# Altium schematic symbol library kmilo17pet-PIC16_Part2.SchLib: 1569 symbols (part 34 of 56)
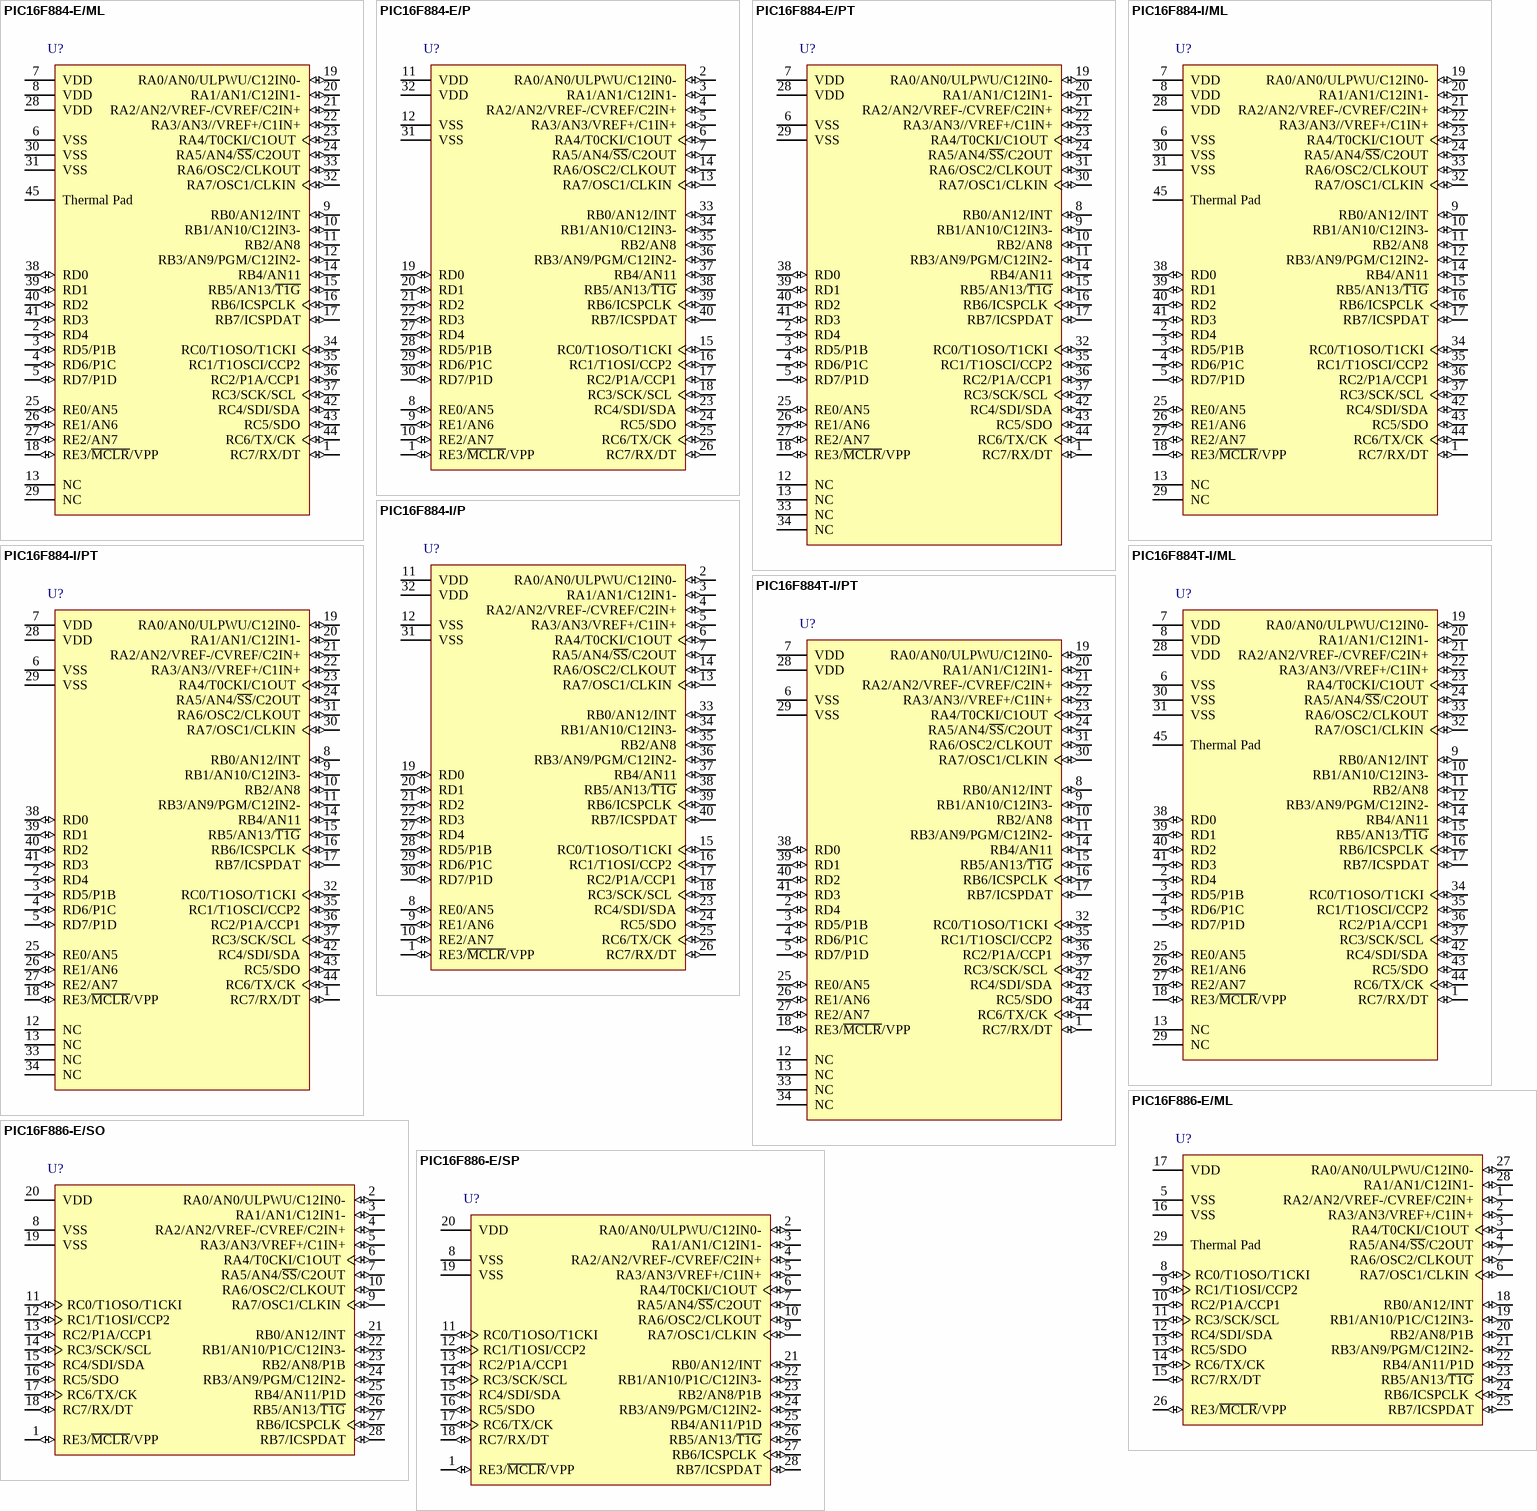
[diagram p158: symbols PIC16F884-E/ML to PIC16F886-E/SP]

## PIC16F884-E/P
designator U?
Flash-Based, 8-Bit CMOS Microcontroller with nanoWatt Technology, 4K (x14-Bit words) Program Memory, 512 Bytes Data Memory, 35 I/O pins, 40-Pin PDIP, Standard VDD Range, Extended Temperature; Manufacturer: Microchip; PartNumber: PIC16F884-E/P; DatasheetVersion: revF, Apr-2009; PackageVersion: revBB, Aug-2009; PackageReference: PDIP600-P40; PackageDescription: 40-Lead Plastic Dual In-Line (P) - 600 mil Body [PDIP]; Supplier 1: Digi-Key; Supplier Part Number 1: PIC16F884-E/P-ND; Supplier 2: Mouser; Supplier Part Number 2: 579-PIC16F884-E/P; ComponentLink1Description: Manufacturer URL; ComponentLink1URL: http://www.microchip.com/; ComponentLink2Description: Datasheet; ComponentLink2URL: http://ww1.microchip.com/downloads/en/DeviceDoc/41291F.pdf; ComponentLink3Description: Package Specification; ComponentLink3URL: http://www.microchip.com/stellent/groups/techpub_sg/documents/packagingspec/en012702.pdf
footprint PDIP600-P40 (DIP, 40-Leads, Row Spacing 15.24mm, Pitch 2.54mm, Body 51.8x13.5mm)
pins: 1 RE3/~{MCLR}/VPP (io), 2 RA0/AN0/ULPWU/C12IN0- (io), 3 RA1/AN1/C12IN1- (io), 4 RA2/AN2/VREF-/CVREF/C2IN+ (io), 5 RA3/AN3/VREF+/C1IN+ (io), 6 RA4/T0CKI/C1OUT (io), 7 RA5/AN4/~{SS}/C2OUT (io), 8 RE0/AN5 (io), 9 RE1/AN6 (io), 10 RE2/AN7 (io), 11 VDD (power), 12 VSS (power), 13 RA7/OSC1/CLKIN (io), 14 RA6/OSC2/CLKOUT (io), 15 RC0/T1OSO/T1CKI (io), 16 RC1/T1OSI/CCP2 (io), 17 RC2/P1A/CCP1 (io), 18 RC3/SCK/SCL (io), 19 RD0 (io), 20 RD1 (io), 21 RD2 (io), 22 RD3 (io), 23 RC4/SDI/SDA (io), 24 RC5/SDO (io), 25 RC6/TX/CK (io), 26 RC7/RX/DT (io), 27 RD4 (io), 28 RD5/P1B (io), 29 RD6/P1C (io), 30 RD7/P1D (io), 31 VSS (power), 32 VDD (power), 33 RB0/AN12/INT (io), 34 RB1/AN10/C12IN3- (io), 35 RB2/AN8 (io), 36 RB3/AN9/PGM/C12IN2- (io), 37 RB4/AN11 (io), 38 RB5/AN13/~{T1G} (io), 39 RB6/ICSPCLK (io), 40 RB7/ICSPDAT (io)

## PIC16F884-E/PT
designator U?
Flash-Based, 8-Bit CMOS Microcontroller with nanoWatt Technology, 4K (x14-Bit words) Program Memory, 512 Bytes Data Memory, 35 I/O pins, 44-Pin TQFP, Standard VDD Range, Extended Temperature; Manufacturer: Microchip; PartNumber: PIC16F884-E/PT; DatasheetVersion: revF, Apr-2009; PackageVersion: revBB, Aug-2009; PackageReference: TQFP-PT44; PackageDescription: 44-Lead Plastic Thin Quad Flatpack (PT) - 10x10x1mm Body, 2.00mm [TQFP]; Supplier 1: Digi-Key; Supplier Part Number 1: PIC16F884-E/PT-ND; Supplier 2: Newark; Supplier Part Number 2: 74K8565; Supplier 3: Mouser; Supplier Part Number 3: 579-PIC16F884-E/PT; Code_JEDEC: MS-026; ComponentLink1Description: Manufacturer URL; ComponentLink1URL: http://www.microchip.com/; ComponentLink2Description: Datasheet; ComponentLink2URL: http://ww1.microchip.com/downloads/en/DeviceDoc/41291F.pdf; ComponentLink3Description: Package Specification; ComponentLink3URL: http://www.microchip.com/stellent/groups/techpub_sg/documents/packagingspec/en012702.pdf
footprint TQFP-PT44_N (Thin QFP, 44-Leads, Body 10x10mm, Pitch 0.8mm, IPC Medium Density)
footprint TQFP-PT44_L (Thin QFP, 44-Leads, Body 10x10mm, Pitch 0.8mm, IPC High Density)
footprint TQFP-PT44_M (Thin QFP, 44-Leads, Body 10x10mm, Pitch 0.8mm, IPC Low Density)
pins: 1 RC7/RX/DT (io), 2 RD4 (io), 3 RD5/P1B (io), 4 RD6/P1C (io), 5 RD7/P1D (io), 6 VSS (power), 7 VDD (power), 8 RB0/AN12/INT (io), 9 RB1/AN10/C12IN3- (io), 10 RB2/AN8 (io), 11 RB3/AN9/PGM/C12IN2- (io), 12 NC, 13 NC, 14 RB4/AN11 (io), 15 RB5/AN13/~{T1G} (io), 16 RB6/ICSPCLK (io), 17 RB7/ICSPDAT (io), 18 RE3/~{MCLR}/VPP (io), 19 RA0/AN0/ULPWU/C12IN0- (io), 20 RA1/AN1/C12IN1- (io), 21 RA2/AN2/VREF-/CVREF/C2IN+ (io), 22 RA3/AN3//VREF+/C1IN+ (io), 23 RA4/T0CKI/C1OUT (io), 24 RA5/AN4/~{SS}/C2OUT (io), 25 RE0/AN5 (io), 26 RE1/AN6 (io), 27 RE2/AN7 (io), 28 VDD (power), 29 VSS (power), 30 RA7/OSC1/CLKIN (io), 31 RA6/OSC2/CLKOUT (io), 32 RC0/T1OSO/T1CKI (io), 33 NC, 34 NC, 35 RC1/T1OSCI/CCP2 (io), 36 RC2/P1A/CCP1 (io), 37 RC3/SCK/SCL (io), 38 RD0 (io), 39 RD1 (io), 40 RD2 (io), 41 RD3 (io), 42 RC4/SDI/SDA (io), 43 RC5/SDO (io), 44 RC6/TX/CK (io)

## PIC16F884-I/ML
designator U?
Flash-Based, 8-Bit CMOS Microcontroller with nanoWatt Technology, 4K (x14-Bit words) Program Memory, 512 Bytes Data Memory, 35 I/O pins, 44-Pin QFN, Standard VDD Range, Industrial Temperature; Manufacturer: Microchip; PartNumber: PIC16F884-I/ML; DatasheetVersion: revF, Apr-2009; PackageVersion: revBB, Aug-2009; PackageReference: QFN-ML44; PackageDescription: 44-Lead Plastic Quad Flat, No Lead Package (ML) - 8x8 mm Body [QFN]; Supplier 1: Digi-Key; Supplier Part Number 1: PIC16F884-I/ML-ND; Supplier 2: Farnell; Supplier Part Number 2: 1815999; Supplier 3: Newark; Supplier Part Number 3: 74K8566; Supplier 4: Mouser; Supplier Part Number 4: 579-PIC16F884-I/ML; Code_JEDEC: MO-220; Code_IPC: QFN65P800X800-44V2; ComponentLink1Description: Manufacturer URL; ComponentLink1URL: http://www.microchip.com/; ComponentLink2Description: Datasheet; ComponentLink2URL: http://ww1.microchip.com/downloads/en/DeviceDoc/41291F.pdf; ComponentLink3Description: Package Specification; ComponentLink3URL: http://www.microchip.com/stellent/groups/techpub_sg/documents/packagingspec/en012702.pdf
footprint QFN-ML44_N (QFN, 44-Leads, Body 8x8mm, Pitch 0.65mm, Thermal Pad 6.8x6.8mm, IPC Medium Density)
footprint QFN-ML44_L (QFN, 44-Leads, Body 8x8mm, Pitch 0.65mm, Thermal Pad 6.8x6.8mm, IPC High Density)
footprint QFN-ML44_M (QFN, 44-Leads, Body 8x8mm, Pitch 0.65mm, Thermal Pad 6.8x6.8mm, IPC Low Density)
pins: 1 RC7/RX/DT (io), 2 RD4 (io), 3 RD5/P1B (io), 4 RD6/P1C (io), 5 RD7/P1D (io), 6 VSS (power), 7 VDD (power), 8 VDD (power), 9 RB0/AN12/INT (io), 10 RB1/AN10/C12IN3- (io), 11 RB2/AN8 (io), 12 RB3/AN9/PGM/C12IN2- (io), 13 NC, 14 RB4/AN11 (io), 15 RB5/AN13/~{T1G} (io), 16 RB6/ICSPCLK (io), 17 RB7/ICSPDAT (io), 18 RE3/~{MCLR}/VPP (io), 19 RA0/AN0/ULPWU/C12IN0- (io), 20 RA1/AN1/C12IN1- (io), 21 RA2/AN2/VREF-/CVREF/C2IN+ (io), 22 RA3/AN3//VREF+/C1IN+ (io), 23 RA4/T0CKI/C1OUT (io), 24 RA5/AN4/~{SS}/C2OUT (io), 25 RE0/AN5 (io), 26 RE1/AN6 (io), 27 RE2/AN7 (io), 28 VDD (power), 29 NC, 30 VSS (power), 31 VSS (power), 32 RA7/OSC1/CLKIN (io), 33 RA6/OSC2/CLKOUT (io), 34 RC0/T1OSO/T1CKI (io), 35 RC1/T1OSCI/CCP2 (io), 36 RC2/P1A/CCP1 (io), 37 RC3/SCK/SCL (io), 38 RD0 (io), 39 RD1 (io), 40 RD2 (io), 41 RD3 (io), 42 RC4/SDI/SDA (io), 43 RC5/SDO (io), 44 RC6/TX/CK (io), 45 Thermal Pad

## PIC16F884-I/P
designator U?
Flash-Based, 8-Bit CMOS Microcontroller with nanoWatt Technology, 4K (x14-Bit words) Program Memory, 512 Bytes Data Memory, 35 I/O pins, 40-Pin PDIP, Standard VDD Range, Industrial Temperature; Manufacturer: Microchip; PartNumber: PIC16F884-I/P; DatasheetVersion: revF, Apr-2009; PackageVersion: revBB, Aug-2009; PackageReference: PDIP600-P40; PackageDescription: 40-Lead Plastic Dual In-Line (P) - 600 mil Body [PDIP]; Supplier 1: Digi-Key; Supplier Part Number 1: PIC16F884-I/P-ND; Supplier 2: Farnell; Supplier Part Number 2: 1439536; Supplier 3: Newark; Supplier Part Number 3: 74K8567; Supplier 4: Mouser; Supplier Part Number 4: 579-PIC16F884-I/P; ComponentLink1Description: Manufacturer URL; ComponentLink1URL: http://www.microchip.com/; ComponentLink2Description: Datasheet; ComponentLink2URL: http://ww1.microchip.com/downloads/en/DeviceDoc/41291F.pdf; ComponentLink3Description: Package Specification; ComponentLink3URL: http://www.microchip.com/stellent/groups/techpub_sg/documents/packagingspec/en012702.pdf
footprint PDIP600-P40 (DIP, 40-Leads, Row Spacing 15.24mm, Pitch 2.54mm, Body 51.8x13.5mm)
pins: 1 RE3/~{MCLR}/VPP (io), 2 RA0/AN0/ULPWU/C12IN0- (io), 3 RA1/AN1/C12IN1- (io), 4 RA2/AN2/VREF-/CVREF/C2IN+ (io), 5 RA3/AN3/VREF+/C1IN+ (io), 6 RA4/T0CKI/C1OUT (io), 7 RA5/AN4/~{SS}/C2OUT (io), 8 RE0/AN5 (io), 9 RE1/AN6 (io), 10 RE2/AN7 (io), 11 VDD (power), 12 VSS (power), 13 RA7/OSC1/CLKIN (io), 14 RA6/OSC2/CLKOUT (io), 15 RC0/T1OSO/T1CKI (io), 16 RC1/T1OSI/CCP2 (io), 17 RC2/P1A/CCP1 (io), 18 RC3/SCK/SCL (io), 19 RD0 (io), 20 RD1 (io), 21 RD2 (io), 22 RD3 (io), 23 RC4/SDI/SDA (io), 24 RC5/SDO (io), 25 RC6/TX/CK (io), 26 RC7/RX/DT (io), 27 RD4 (io), 28 RD5/P1B (io), 29 RD6/P1C (io), 30 RD7/P1D (io), 31 VSS (power), 32 VDD (power), 33 RB0/AN12/INT (io), 34 RB1/AN10/C12IN3- (io), 35 RB2/AN8 (io), 36 RB3/AN9/PGM/C12IN2- (io), 37 RB4/AN11 (io), 38 RB5/AN13/~{T1G} (io), 39 RB6/ICSPCLK (io), 40 RB7/ICSPDAT (io)

## PIC16F884-I/PT
designator U?
Flash-Based, 8-Bit CMOS Microcontroller with nanoWatt Technology, 4K (x14-Bit words) Program Memory, 512 Bytes Data Memory, 35 I/O pins, 44-Pin TQFP, Standard VDD Range, Industrial Temperature; Manufacturer: Microchip; PartNumber: PIC16F884-I/PT; DatasheetVersion: revF, Apr-2009; PackageVersion: revBB, Aug-2009; PackageReference: TQFP-PT44; PackageDescription: 44-Lead Plastic Thin Quad Flatpack (PT) - 10x10x1mm Body, 2.00mm [TQFP]; Supplier 1: Digi-Key; Supplier Part Number 1: PIC16F884-I/PT-ND; Supplier 2: Farnell; Supplier Part Number 2: 1439537; Supplier 3: Farnell; Supplier Part Number 3: 1439537MPKG; Supplier 4: Farnell; Supplier Part Number 4: 1678903; Supplier 5: Newark; Supplier Part Number 5: 74K8568; Supplier 6: Mouser; Supplier Part Number 6: 579-PIC16F884-I/PT; Code_JEDEC: MS-026; ComponentLink1Description: Manufacturer URL; ComponentLink1URL: http://www.microchip.com/; ComponentLink2Description: Datasheet; ComponentLink2URL: http://ww1.microchip.com/downloads/en/DeviceDoc/41291F.pdf; ComponentLink3Description: Package Specification; ComponentLink3URL: http://www.microchip.com/stellent/groups/techpub_sg/documents/packagingspec/en012702.pdf
footprint TQFP-PT44_N (Thin QFP, 44-Leads, Body 10x10mm, Pitch 0.8mm, IPC Medium Density)
footprint TQFP-PT44_L (Thin QFP, 44-Leads, Body 10x10mm, Pitch 0.8mm, IPC High Density)
footprint TQFP-PT44_M (Thin QFP, 44-Leads, Body 10x10mm, Pitch 0.8mm, IPC Low Density)
pins: 1 RC7/RX/DT (io), 2 RD4 (io), 3 RD5/P1B (io), 4 RD6/P1C (io), 5 RD7/P1D (io), 6 VSS (power), 7 VDD (power), 8 RB0/AN12/INT (io), 9 RB1/AN10/C12IN3- (io), 10 RB2/AN8 (io), 11 RB3/AN9/PGM/C12IN2- (io), 12 NC, 13 NC, 14 RB4/AN11 (io), 15 RB5/AN13/~{T1G} (io), 16 RB6/ICSPCLK (io), 17 RB7/ICSPDAT (io), 18 RE3/~{MCLR}/VPP (io), 19 RA0/AN0/ULPWU/C12IN0- (io), 20 RA1/AN1/C12IN1- (io), 21 RA2/AN2/VREF-/CVREF/C2IN+ (io), 22 RA3/AN3//VREF+/C1IN+ (io), 23 RA4/T0CKI/C1OUT (io), 24 RA5/AN4/~{SS}/C2OUT (io), 25 RE0/AN5 (io), 26 RE1/AN6 (io), 27 RE2/AN7 (io), 28 VDD (power), 29 VSS (power), 30 RA7/OSC1/CLKIN (io), 31 RA6/OSC2/CLKOUT (io), 32 RC0/T1OSO/T1CKI (io), 33 NC, 34 NC, 35 RC1/T1OSCI/CCP2 (io), 36 RC2/P1A/CCP1 (io), 37 RC3/SCK/SCL (io), 38 RD0 (io), 39 RD1 (io), 40 RD2 (io), 41 RD3 (io), 42 RC4/SDI/SDA (io), 43 RC5/SDO (io), 44 RC6/TX/CK (io)

## PIC16F884T-I/ML
designator U?
Flash-Based, 8-Bit CMOS Microcontroller with nanoWatt Technology, 4K (x14-Bit words) Program Memory, 512 Bytes Data Memory, 35 I/O pins, 44-Pin QFN, Standard VDD Range, Industrial Temperature, Tape and Reel; Manufacturer: Microchip; PartNumber: PIC16F884T-I/ML; DatasheetVersion: revF, Apr-2009; PackageVersion: revBB, Aug-2009; PackageReference: QFN-ML44; PackageDescription: 44-Lead Plastic Quad Flat, No Lead Package (ML) - 8x8 mm Body [QFN]; Supplier 1: Digi-Key; Supplier Part Number 1: PIC16F884T-I/ML-ND; Supplier 2: Mouser; Supplier Part Number 2: 579-PIC16F884T-I/ML; Code_JEDEC: MO-220; Code_IPC: QFN65P800X800-44V2; ComponentLink1Description: Manufacturer URL; ComponentLink1URL: http://www.microchip.com/; ComponentLink2Description: Datasheet; ComponentLink2URL: http://ww1.microchip.com/downloads/en/DeviceDoc/41291F.pdf; ComponentLink3Description: Package Specification; ComponentLink3URL: http://www.microchip.com/stellent/groups/techpub_sg/documents/packagingspec/en012702.pdf
footprint QFN-ML44_N (QFN, 44-Leads, Body 8x8mm, Pitch 0.65mm, Thermal Pad 6.8x6.8mm, IPC Medium Density)
footprint QFN-ML44_L (QFN, 44-Leads, Body 8x8mm, Pitch 0.65mm, Thermal Pad 6.8x6.8mm, IPC High Density)
footprint QFN-ML44_M (QFN, 44-Leads, Body 8x8mm, Pitch 0.65mm, Thermal Pad 6.8x6.8mm, IPC Low Density)
pins: 1 RC7/RX/DT (io), 2 RD4 (io), 3 RD5/P1B (io), 4 RD6/P1C (io), 5 RD7/P1D (io), 6 VSS (power), 7 VDD (power), 8 VDD (power), 9 RB0/AN12/INT (io), 10 RB1/AN10/C12IN3- (io), 11 RB2/AN8 (io), 12 RB3/AN9/PGM/C12IN2- (io), 13 NC, 14 RB4/AN11 (io), 15 RB5/AN13/~{T1G} (io), 16 RB6/ICSPCLK (io), 17 RB7/ICSPDAT (io), 18 RE3/~{MCLR}/VPP (io), 19 RA0/AN0/ULPWU/C12IN0- (io), 20 RA1/AN1/C12IN1- (io), 21 RA2/AN2/VREF-/CVREF/C2IN+ (io), 22 RA3/AN3//VREF+/C1IN+ (io), 23 RA4/T0CKI/C1OUT (io), 24 RA5/AN4/~{SS}/C2OUT (io), 25 RE0/AN5 (io), 26 RE1/AN6 (io), 27 RE2/AN7 (io), 28 VDD (power), 29 NC, 30 VSS (power), 31 VSS (power), 32 RA7/OSC1/CLKIN (io), 33 RA6/OSC2/CLKOUT (io), 34 RC0/T1OSO/T1CKI (io), 35 RC1/T1OSCI/CCP2 (io), 36 RC2/P1A/CCP1 (io), 37 RC3/SCK/SCL (io), 38 RD0 (io), 39 RD1 (io), 40 RD2 (io), 41 RD3 (io), 42 RC4/SDI/SDA (io), 43 RC5/SDO (io), 44 RC6/TX/CK (io), 45 Thermal Pad

## PIC16F884T-I/PT
designator U?
Flash-Based, 8-Bit CMOS Microcontroller with nanoWatt Technology, 4K (x14-Bit words) Program Memory, 512 Bytes Data Memory, 35 I/O pins, 44-Pin TQFP, Standard VDD Range, Industrial Temperature, Tape and Reel; Manufacturer: Microchip; PartNumber: PIC16F884T-I/PT; DatasheetVersion: revF, Apr-2009; PackageVersion: revBB, Aug-2009; PackageReference: TQFP-PT44; PackageDescription: 44-Lead Plastic Thin Quad Flatpack (PT) - 10x10x1mm Body, 2.00mm [TQFP]; Supplier 1: Digi-Key; Supplier Part Number 1: PIC16F884T-I/PT-ND; Supplier 2: Mouser; Supplier Part Number 2: 579-PIC16F884T-I/PT; Code_JEDEC: MS-026; ComponentLink1Description: Manufacturer URL; ComponentLink1URL: http://www.microchip.com/; ComponentLink2Description: Datasheet; ComponentLink2URL: http://ww1.microchip.com/downloads/en/DeviceDoc/41291F.pdf; ComponentLink3Description: Package Specification; ComponentLink3URL: http://www.microchip.com/stellent/groups/techpub_sg/documents/packagingspec/en012702.pdf
footprint TQFP-PT44_N (Thin QFP, 44-Leads, Body 10x10mm, Pitch 0.8mm, IPC Medium Density)
footprint TQFP-PT44_L (Thin QFP, 44-Leads, Body 10x10mm, Pitch 0.8mm, IPC High Density)
footprint TQFP-PT44_M (Thin QFP, 44-Leads, Body 10x10mm, Pitch 0.8mm, IPC Low Density)
pins: 1 RC7/RX/DT (io), 2 RD4 (io), 3 RD5/P1B (io), 4 RD6/P1C (io), 5 RD7/P1D (io), 6 VSS (power), 7 VDD (power), 8 RB0/AN12/INT (io), 9 RB1/AN10/C12IN3- (io), 10 RB2/AN8 (io), 11 RB3/AN9/PGM/C12IN2- (io), 12 NC, 13 NC, 14 RB4/AN11 (io), 15 RB5/AN13/~{T1G} (io), 16 RB6/ICSPCLK (io), 17 RB7/ICSPDAT (io), 18 RE3/~{MCLR}/VPP (io), 19 RA0/AN0/ULPWU/C12IN0- (io), 20 RA1/AN1/C12IN1- (io), 21 RA2/AN2/VREF-/CVREF/C2IN+ (io), 22 RA3/AN3//VREF+/C1IN+ (io), 23 RA4/T0CKI/C1OUT (io), 24 RA5/AN4/~{SS}/C2OUT (io), 25 RE0/AN5 (io), 26 RE1/AN6 (io), 27 RE2/AN7 (io), 28 VDD (power), 29 VSS (power), 30 RA7/OSC1/CLKIN (io), 31 RA6/OSC2/CLKOUT (io), 32 RC0/T1OSO/T1CKI (io), 33 NC, 34 NC, 35 RC1/T1OSCI/CCP2 (io), 36 RC2/P1A/CCP1 (io), 37 RC3/SCK/SCL (io), 38 RD0 (io), 39 RD1 (io), 40 RD2 (io), 41 RD3 (io), 42 RC4/SDI/SDA (io), 43 RC5/SDO (io), 44 RC6/TX/CK (io)

## PIC16F886-E/ML
designator U?
Flash-Based, 8-Bit CMOS Microcontroller with nanoWatt Technology, 8K (x14-Bit words) Program Memory, 624 Bytes Data Memory, 24 I/O pins, 28-Pin QFN, Standard VDD Range, Extended Temperature; Manufacturer: Microchip; PartNumber: PIC16F886-E/ML; DatasheetVersion: revF, Apr-2009; PackageVersion: revBB, Aug-2009; PackageReference: QFN-ML28; PackageDescription: 28-Lead Plastic Quad Flat, No Lead Package (ML) - 6x6 mm Body [QFN] with 0.55 mm Contact Length; Supplier 1: Digi-Key; Supplier Part Number 1: PIC16F886-E/ML-ND; Supplier 2: Farnell; Supplier Part Number 2: 1816000; Supplier 3: Newark; Supplier Part Number 3: 74K8571; Supplier 4: Mouser; Supplier Part Number 4: 579-PIC16F886-E/ML; Code_JEDEC: MO-220; ComponentLink1Description: Manufacturer URL; ComponentLink1URL: http://www.microchip.com/; ComponentLink2Description: Datasheet; ComponentLink2URL: http://ww1.microchip.com/downloads/en/DeviceDoc/41291F.pdf; ComponentLink3Description: Package Specification; ComponentLink3URL: http://www.microchip.com/stellent/groups/techpub_sg/documents/packagingspec/en012702.pdf
footprint QFN-ML28_N (QFN, 28-Leads, Body 6x6mm, Pitch 0.65mm, Thermal Pad 4.2x4.2mm, IPC Medium Density)
footprint QFN-ML28_L (QFN, 28-Leads, Body 6x6mm, Pitch 0.65mm, Thermal Pad 4.2x4.2mm, IPC High Density)
footprint QFN-ML28_M (QFN, 28-Leads, Body 6x6mm, Pitch 0.65mm, Thermal Pad 4.2x4.2mm, IPC Low Density)
pins: 1 RA2/AN2/VREF-/CVREF/C2IN+ (io), 2 RA3/AN3/VREF+/C1IN+ (io), 3 RA4/T0CKI/C1OUT (io), 4 RA5/AN4/~{SS}/C2OUT (io), 5 VSS (power), 6 RA7/OSC1/CLKIN (io), 7 RA6/OSC2/CLKOUT (io), 8 RC0/T1OSO/T1CKI (io), 9 RC1/T1OSI/CCP2 (io), 10 RC2/P1A/CCP1 (io), 11 RC3/SCK/SCL (io), 12 RC4/SDI/SDA (io), 13 RC5/SDO (io), 14 RC6/TX/CK (io), 15 RC7/RX/DT (io), 16 VSS (power), 17 VDD (power), 18 RB0/AN12/INT (io), 19 RB1/AN10/P1C/C12IN3- (io), 20 RB2/AN8/P1B (io), 21 RB3/AN9/PGM/C12IN2- (io), 22 RB4/AN11/P1D (io), 23 RB5/AN13/~{T1G} (io), 24 RB6/ICSPCLK (io), 25 RB7/ICSPDAT (io), 26 RE3/~{MCLR}/VPP (io), 27 RA0/AN0/ULPWU/C12IN0- (io), 28 RA1/AN1/C12IN1- (io), 29 Thermal Pad

## PIC16F886-E/SO
designator U?
Flash-Based, 8-Bit CMOS Microcontroller with nanoWatt Technology, 8K (x14-Bit words) Program Memory, 624 Bytes Data Memory, 24 I/O pins, 28-Pin SOIC, Standard VDD Range, Extended Temperature; Manufacturer: Microchip; PartNumber: PIC16F886-E/SO; DatasheetVersion: revF, Apr-2009; PackageVersion: revBB, Aug-2009; PackageReference: SOIC-SO28; PackageDescription: 28-Lead Plastic Small Outline (SO) - Wide 7.50mm Body [SOIC]; Supplier 1: Digi-Key; Supplier Part Number 1: PIC16F886-E/SO-ND; Supplier 2: Newark; Supplier Part Number 2: 74K8572; Supplier 3: Mouser; Supplier Part Number 3: 579-PIC16F886-E/SO; Code_JEDEC: MS-013; ComponentLink1Description: Manufacturer URL; ComponentLink1URL: http://www.microchip.com/; ComponentLink2Description: Datasheet; ComponentLink2URL: http://ww1.microchip.com/downloads/en/DeviceDoc/41291F.pdf; ComponentLink3Description: Package Specification; ComponentLink3URL: http://www.microchip.com/stellent/groups/techpub_sg/documents/packagingspec/en012702.pdf
footprint SOIC-SO28_N (SOIC, 28-Leads, Body 17.9x7.5mm, Pitch 1.27mm, IPC Medium Density)
footprint SOIC-SO28_L (SOIC, 28-Leads, Body 17.9x7.5mm, Pitch 1.27mm, IPC High Density)
footprint SOIC-SO28_M (SOIC, 28-Leads, Body 17.9x7.5mm, Pitch 1.27mm, IPC Low Density)
pins: 1 RE3/~{MCLR}/VPP (io), 2 RA0/AN0/ULPWU/C12IN0- (io), 3 RA1/AN1/C12IN1- (io), 4 RA2/AN2/VREF-/CVREF/C2IN+ (io), 5 RA3/AN3/VREF+/C1IN+ (io), 6 RA4/T0CKI/C1OUT (io), 7 RA5/AN4/~{SS}/C2OUT (io), 8 VSS (power), 9 RA7/OSC1/CLKIN (io), 10 RA6/OSC2/CLKOUT (io), 11 RC0/T1OSO/T1CKI (io), 12 RC1/T1OSI/CCP2 (io), 13 RC2/P1A/CCP1 (io), 14 RC3/SCK/SCL (io), 15 RC4/SDI/SDA (io), 16 RC5/SDO (io), 17 RC6/TX/CK (io), 18 RC7/RX/DT (io), 19 VSS (power), 20 VDD (power), 21 RB0/AN12/INT (io), 22 RB1/AN10/P1C/C12IN3- (io), 23 RB2/AN8/P1B (io), 24 RB3/AN9/PGM/C12IN2- (io), 25 RB4/AN11/P1D (io), 26 RB5/AN13/~{T1G} (io), 27 RB6/ICSPCLK (io), 28 RB7/ICSPDAT (io)

## PIC16F886-E/SP
designator U?
Flash-Based, 8-Bit CMOS Microcontroller with nanoWatt Technology, 8K (x14-Bit words) Program Memory, 624 Bytes Data Memory, 24 I/O pins, 28-Pin SPDIP, Standard VDD Range, Extended Temperature; Manufacturer: Microchip; PartNumber: PIC16F886-E/SP; DatasheetVersion: revF, Apr-2009; PackageVersion: revBB, Aug-2009; PackageReference: SPDIP300-SP28; PackageDescription: 28-Lead Skinny Plastic Dual In-Line (SP) - 300 mil Body [SPDIP]; Supplier 1: Digi-Key; Supplier Part Number 1: PIC16F886-E/SP-ND; Supplier 2: Farnell; Supplier Part Number 2: 1579590; Supplier 3: Newark; Supplier Part Number 3: 74K8573; Supplier 4: Mouser; Supplier Part Number 4: 579-PIC16F886-E/SP; ComponentLink1Description: Manufacturer URL; ComponentLink1URL: http://www.microchip.com/; ComponentLink2Description: Datasheet; ComponentLink2URL: http://ww1.microchip.com/downloads/en/DeviceDoc/41291F.pdf; ComponentLink3Description: Package Specification; ComponentLink3URL: http://www.microchip.com/stellent/groups/techpub_sg/documents/packagingspec/en012702.pdf
footprint SPDIP300-SP28 (DIP, 28-Leads, Row Spacing 7.62mm, Pitch 2.54mm, Body 34.9x6.8mm)
pins: 1 RE3/~{MCLR}/VPP (io), 2 RA0/AN0/ULPWU/C12IN0- (io), 3 RA1/AN1/C12IN1- (io), 4 RA2/AN2/VREF-/CVREF/C2IN+ (io), 5 RA3/AN3/VREF+/C1IN+ (io), 6 RA4/T0CKI/C1OUT (io), 7 RA5/AN4/~{SS}/C2OUT (io), 8 VSS (power), 9 RA7/OSC1/CLKIN (io), 10 RA6/OSC2/CLKOUT (io), 11 RC0/T1OSO/T1CKI (io), 12 RC1/T1OSI/CCP2 (io), 13 RC2/P1A/CCP1 (io), 14 RC3/SCK/SCL (io), 15 RC4/SDI/SDA (io), 16 RC5/SDO (io), 17 RC6/TX/CK (io), 18 RC7/RX/DT (io), 19 VSS (power), 20 VDD (power), 21 RB0/AN12/INT (io), 22 RB1/AN10/P1C/C12IN3- (io), 23 RB2/AN8/P1B (io), 24 RB3/AN9/PGM/C12IN2- (io), 25 RB4/AN11/P1D (io), 26 RB5/AN13/~{T1G} (io), 27 RB6/ICSPCLK (io), 28 RB7/ICSPDAT (io)

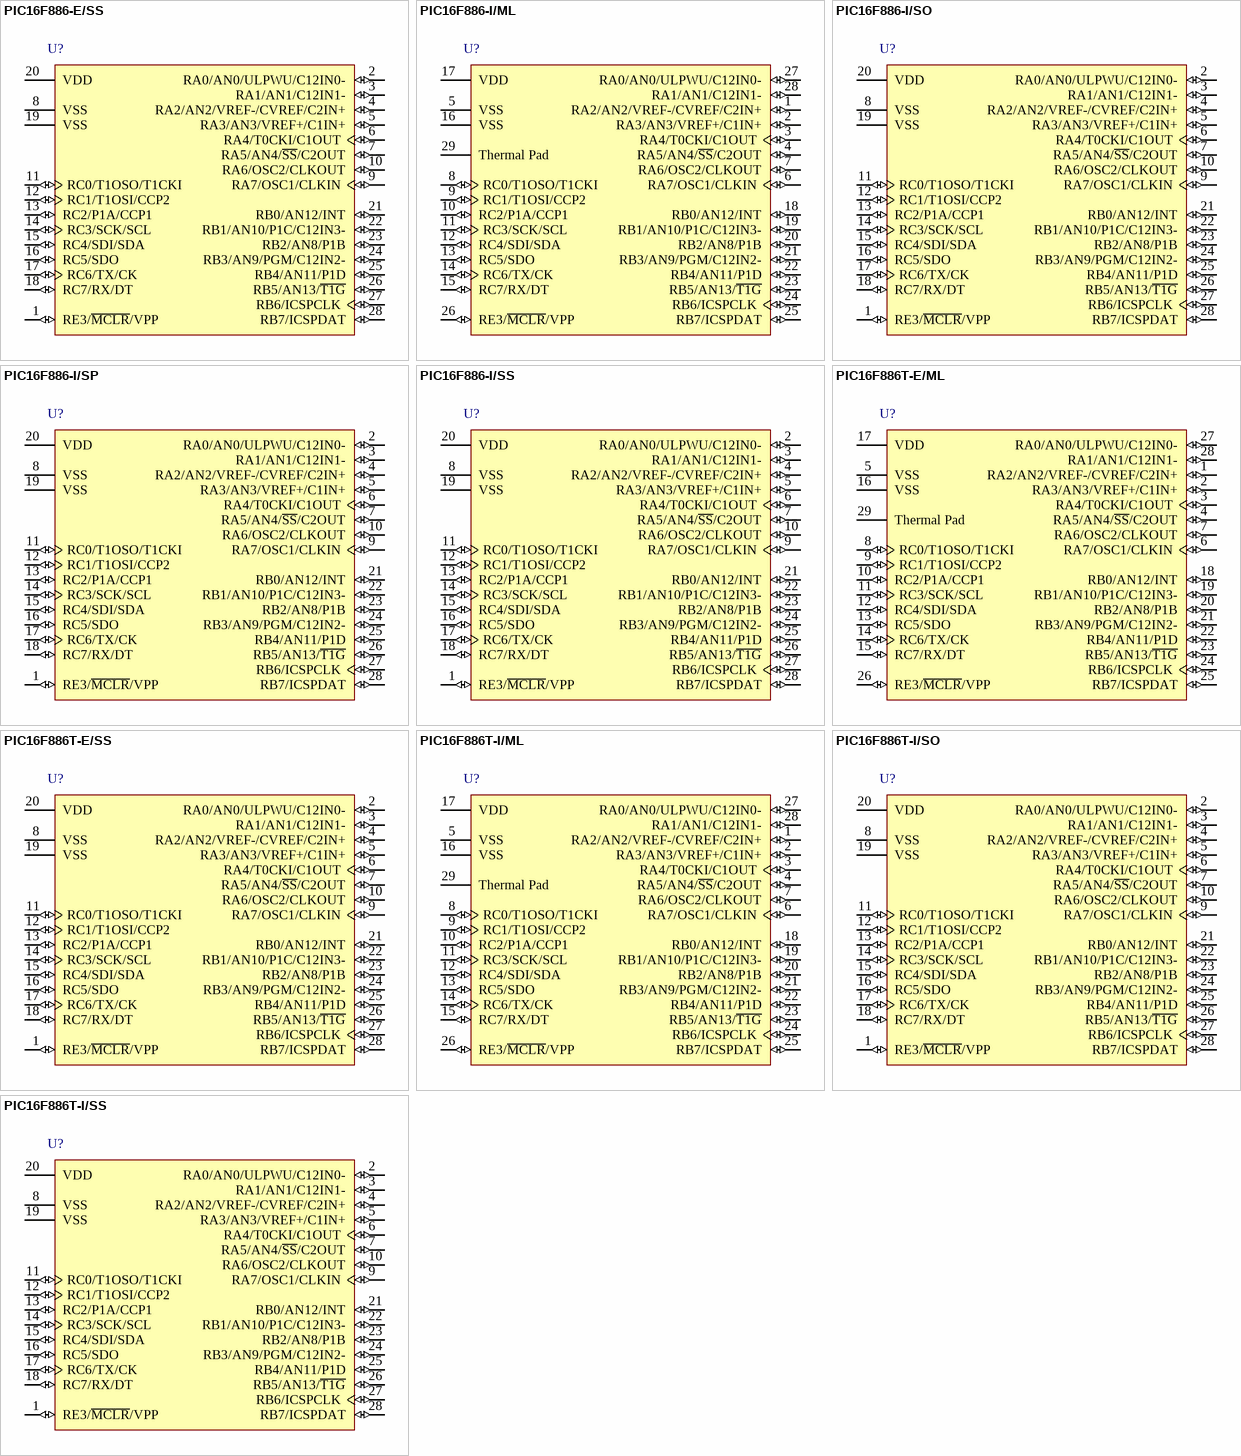
[diagram p69: symbols PIC16F886-E/SS to PIC16F886T-I/SS]

## PIC16F886-E/SS
designator U?
Flash-Based, 8-Bit CMOS Microcontroller with nanoWatt Technology, 8K (x14-Bit words) Program Memory, 624 Bytes Data Memory, 24 I/O pins, 28-Pin SSOP, Standard VDD Range, Extended Temperature; Manufacturer: Microchip; PartNumber: PIC16F886-E/SS; DatasheetVersion: revF, Apr-2009; PackageVersion: revBB, Aug-2009; PackageReference: SSOP-SS28; PackageDescription: 28-Lead Plastic Shrink Small Outline (SS) - 5.3mm Body [SSOP]; Supplier 1: Digi-Key; Supplier Part Number 1: PIC16F886-E/SS-ND; Supplier 2: Mouser; Supplier Part Number 2: 579-PIC16F886-E/SS; Code_JEDEC: MS-150; ComponentLink1Description: Manufacturer URL; ComponentLink1URL: http://www.microchip.com/; ComponentLink2Description: Datasheet; ComponentLink2URL: http://ww1.microchip.com/downloads/en/DeviceDoc/41291F.pdf; ComponentLink3Description: Package Specification; ComponentLink3URL: http://www.microchip.com/stellent/groups/techpub_sg/documents/packagingspec/en012702.pdf
footprint SSOP-SS28_N (SOP, 28-Leads, Body 10.2x5.2mm, Pitch 0.65mm, IPC Medium Density)
footprint SSOP-SS28_L (SOP, 28-Leads, Body 10.2x5.2mm, Pitch 0.65mm, IPC High Density)
footprint SSOP-SS28_M (SOP, 28-Leads, Body 10.2x5.2mm, Pitch 0.65mm, IPC Low Density)
pins: 1 RE3/~{MCLR}/VPP (io), 2 RA0/AN0/ULPWU/C12IN0- (io), 3 RA1/AN1/C12IN1- (io), 4 RA2/AN2/VREF-/CVREF/C2IN+ (io), 5 RA3/AN3/VREF+/C1IN+ (io), 6 RA4/T0CKI/C1OUT (io), 7 RA5/AN4/~{SS}/C2OUT (io), 8 VSS (power), 9 RA7/OSC1/CLKIN (io), 10 RA6/OSC2/CLKOUT (io), 11 RC0/T1OSO/T1CKI (io), 12 RC1/T1OSI/CCP2 (io), 13 RC2/P1A/CCP1 (io), 14 RC3/SCK/SCL (io), 15 RC4/SDI/SDA (io), 16 RC5/SDO (io), 17 RC6/TX/CK (io), 18 RC7/RX/DT (io), 19 VSS (power), 20 VDD (power), 21 RB0/AN12/INT (io), 22 RB1/AN10/P1C/C12IN3- (io), 23 RB2/AN8/P1B (io), 24 RB3/AN9/PGM/C12IN2- (io), 25 RB4/AN11/P1D (io), 26 RB5/AN13/~{T1G} (io), 27 RB6/ICSPCLK (io), 28 RB7/ICSPDAT (io)

## PIC16F886-I/ML
designator U?
Flash-Based, 8-Bit CMOS Microcontroller with nanoWatt Technology, 8K (x14-Bit words) Program Memory, 624 Bytes Data Memory, 24 I/O pins, 28-Pin QFN, Standard VDD Range, Industrial Temperature; Manufacturer: Microchip; PartNumber: PIC16F886-I/ML; DatasheetVersion: revF, Apr-2009; PackageVersion: revBB, Aug-2009; PackageReference: QFN-ML28; PackageDescription: 28-Lead Plastic Quad Flat, No Lead Package (ML) - 6x6 mm Body [QFN] with 0.55 mm Contact Length; Supplier 1: Digi-Key; Supplier Part Number 1: PIC16F886-I/ML-ND; Supplier 2: Farnell; Supplier Part Number 2: 1579591; Supplier 3: Newark; Supplier Part Number 3: 74K8575; Supplier 4: Mouser; Supplier Part Number 4: 579-PIC16F886-I/ML; Code_JEDEC: MO-220; ComponentLink1Description: Manufacturer URL; ComponentLink1URL: http://www.microchip.com/; ComponentLink2Description: Datasheet; ComponentLink2URL: http://ww1.microchip.com/downloads/en/DeviceDoc/41291F.pdf; ComponentLink3Description: Package Specification; ComponentLink3URL: http://www.microchip.com/stellent/groups/techpub_sg/documents/packagingspec/en012702.pdf
footprint QFN-ML28_N (QFN, 28-Leads, Body 6x6mm, Pitch 0.65mm, Thermal Pad 4.2x4.2mm, IPC Medium Density)
footprint QFN-ML28_L (QFN, 28-Leads, Body 6x6mm, Pitch 0.65mm, Thermal Pad 4.2x4.2mm, IPC High Density)
footprint QFN-ML28_M (QFN, 28-Leads, Body 6x6mm, Pitch 0.65mm, Thermal Pad 4.2x4.2mm, IPC Low Density)
pins: 1 RA2/AN2/VREF-/CVREF/C2IN+ (io), 2 RA3/AN3/VREF+/C1IN+ (io), 3 RA4/T0CKI/C1OUT (io), 4 RA5/AN4/~{SS}/C2OUT (io), 5 VSS (power), 6 RA7/OSC1/CLKIN (io), 7 RA6/OSC2/CLKOUT (io), 8 RC0/T1OSO/T1CKI (io), 9 RC1/T1OSI/CCP2 (io), 10 RC2/P1A/CCP1 (io), 11 RC3/SCK/SCL (io), 12 RC4/SDI/SDA (io), 13 RC5/SDO (io), 14 RC6/TX/CK (io), 15 RC7/RX/DT (io), 16 VSS (power), 17 VDD (power), 18 RB0/AN12/INT (io), 19 RB1/AN10/P1C/C12IN3- (io), 20 RB2/AN8/P1B (io), 21 RB3/AN9/PGM/C12IN2- (io), 22 RB4/AN11/P1D (io), 23 RB5/AN13/~{T1G} (io), 24 RB6/ICSPCLK (io), 25 RB7/ICSPDAT (io), 26 RE3/~{MCLR}/VPP (io), 27 RA0/AN0/ULPWU/C12IN0- (io), 28 RA1/AN1/C12IN1- (io), 29 Thermal Pad

## PIC16F886-I/SO
designator U?
Flash-Based, 8-Bit CMOS Microcontroller with nanoWatt Technology, 8K (x14-Bit words) Program Memory, 624 Bytes Data Memory, 24 I/O pins, 28-Pin SOIC, Standard VDD Range, Industrial Temperature; Manufacturer: Microchip; PartNumber: PIC16F886-I/SO; DatasheetVersion: revF, Apr-2009; PackageVersion: revBB, Aug-2009; PackageReference: SOIC-SO28; PackageDescription: 28-Lead Plastic Small Outline (SO) - Wide 7.50mm Body [SOIC]; Supplier 1: Digi-Key; Supplier Part Number 1: PIC16F886-I/SO-ND; Supplier 2: Farnell; Supplier Part Number 2: 1439538; Supplier 3: Newark; Supplier Part Number 3: 74K8576; Supplier 4: Mouser; Supplier Part Number 4: 579-PIC16F886-I/SO; Code_JEDEC: MS-013; ComponentLink1Description: Manufacturer URL; ComponentLink1URL: http://www.microchip.com/; ComponentLink2Description: Datasheet; ComponentLink2URL: http://ww1.microchip.com/downloads/en/DeviceDoc/41291F.pdf; ComponentLink3Description: Package Specification; ComponentLink3URL: http://www.microchip.com/stellent/groups/techpub_sg/documents/packagingspec/en012702.pdf
footprint SOIC-SO28_N (SOIC, 28-Leads, Body 17.9x7.5mm, Pitch 1.27mm, IPC Medium Density)
footprint SOIC-SO28_L (SOIC, 28-Leads, Body 17.9x7.5mm, Pitch 1.27mm, IPC High Density)
footprint SOIC-SO28_M (SOIC, 28-Leads, Body 17.9x7.5mm, Pitch 1.27mm, IPC Low Density)
pins: 1 RE3/~{MCLR}/VPP (io), 2 RA0/AN0/ULPWU/C12IN0- (io), 3 RA1/AN1/C12IN1- (io), 4 RA2/AN2/VREF-/CVREF/C2IN+ (io), 5 RA3/AN3/VREF+/C1IN+ (io), 6 RA4/T0CKI/C1OUT (io), 7 RA5/AN4/~{SS}/C2OUT (io), 8 VSS (power), 9 RA7/OSC1/CLKIN (io), 10 RA6/OSC2/CLKOUT (io), 11 RC0/T1OSO/T1CKI (io), 12 RC1/T1OSI/CCP2 (io), 13 RC2/P1A/CCP1 (io), 14 RC3/SCK/SCL (io), 15 RC4/SDI/SDA (io), 16 RC5/SDO (io), 17 RC6/TX/CK (io), 18 RC7/RX/DT (io), 19 VSS (power), 20 VDD (power), 21 RB0/AN12/INT (io), 22 RB1/AN10/P1C/C12IN3- (io), 23 RB2/AN8/P1B (io), 24 RB3/AN9/PGM/C12IN2- (io), 25 RB4/AN11/P1D (io), 26 RB5/AN13/~{T1G} (io), 27 RB6/ICSPCLK (io), 28 RB7/ICSPDAT (io)

## PIC16F886-I/SP
designator U?
Flash-Based, 8-Bit CMOS Microcontroller with nanoWatt Technology, 8K (x14-Bit words) Program Memory, 624 Bytes Data Memory, 24 I/O pins, 28-Pin SPDIP, Standard VDD Range, Industrial Temperature; Manufacturer: Microchip; PartNumber: PIC16F886-I/SP; DatasheetVersion: revF, Apr-2009; PackageVersion: revBB, Aug-2009; PackageReference: SPDIP300-SP28; PackageDescription: 28-Lead Skinny Plastic Dual In-Line (SP) - 300 mil Body [SPDIP]; Supplier 1: Digi-Key; Supplier Part Number 1: PIC16F886-I/SP-ND; Supplier 2: Farnell; Supplier Part Number 2: 1439539; Supplier 3: Newark; Supplier Part Number 3: 74K8577; Supplier 4: Mouser; Supplier Part Number 4: 579-PIC16F886-I/SP; ComponentLink1Description: Manufacturer URL; ComponentLink1URL: http://www.microchip.com/; ComponentLink2Description: Datasheet; ComponentLink2URL: http://ww1.microchip.com/downloads/en/DeviceDoc/41291F.pdf; ComponentLink3Description: Package Specification; ComponentLink3URL: http://www.microchip.com/stellent/groups/techpub_sg/documents/packagingspec/en012702.pdf
footprint SPDIP300-SP28 (DIP, 28-Leads, Row Spacing 7.62mm, Pitch 2.54mm, Body 34.9x6.8mm)
pins: 1 RE3/~{MCLR}/VPP (io), 2 RA0/AN0/ULPWU/C12IN0- (io), 3 RA1/AN1/C12IN1- (io), 4 RA2/AN2/VREF-/CVREF/C2IN+ (io), 5 RA3/AN3/VREF+/C1IN+ (io), 6 RA4/T0CKI/C1OUT (io), 7 RA5/AN4/~{SS}/C2OUT (io), 8 VSS (power), 9 RA7/OSC1/CLKIN (io), 10 RA6/OSC2/CLKOUT (io), 11 RC0/T1OSO/T1CKI (io), 12 RC1/T1OSI/CCP2 (io), 13 RC2/P1A/CCP1 (io), 14 RC3/SCK/SCL (io), 15 RC4/SDI/SDA (io), 16 RC5/SDO (io), 17 RC6/TX/CK (io), 18 RC7/RX/DT (io), 19 VSS (power), 20 VDD (power), 21 RB0/AN12/INT (io), 22 RB1/AN10/P1C/C12IN3- (io), 23 RB2/AN8/P1B (io), 24 RB3/AN9/PGM/C12IN2- (io), 25 RB4/AN11/P1D (io), 26 RB5/AN13/~{T1G} (io), 27 RB6/ICSPCLK (io), 28 RB7/ICSPDAT (io)

## PIC16F886-I/SS
designator U?
Flash-Based, 8-Bit CMOS Microcontroller with nanoWatt Technology, 8K (x14-Bit words) Program Memory, 624 Bytes Data Memory, 24 I/O pins, 28-Pin SSOP, Standard VDD Range, Industrial Temperature; Manufacturer: Microchip; PartNumber: PIC16F886-I/SS; DatasheetVersion: revF, Apr-2009; PackageVersion: revBB, Aug-2009; PackageReference: SSOP-SS28; PackageDescription: 28-Lead Plastic Shrink Small Outline (SS) - 5.3mm Body [SSOP]; Supplier 1: Digi-Key; Supplier Part Number 1: PIC16F886-I/SS-ND; Supplier 2: Farnell; Supplier Part Number 2: 1439540; Supplier 3: Newark; Supplier Part Number 3: 74K8578; Supplier 4: Mouser; Supplier Part Number 4: 579-PIC16F886-I/SS; Code_JEDEC: MS-150; ComponentLink1Description: Manufacturer URL; ComponentLink1URL: http://www.microchip.com/; ComponentLink2Description: Datasheet; ComponentLink2URL: http://ww1.microchip.com/downloads/en/DeviceDoc/41291F.pdf; ComponentLink3Description: Package Specification; ComponentLink3URL: http://www.microchip.com/stellent/groups/techpub_sg/documents/packagingspec/en012702.pdf
footprint SSOP-SS28_N (SOP, 28-Leads, Body 10.2x5.2mm, Pitch 0.65mm, IPC Medium Density)
footprint SSOP-SS28_L (SOP, 28-Leads, Body 10.2x5.2mm, Pitch 0.65mm, IPC High Density)
footprint SSOP-SS28_M (SOP, 28-Leads, Body 10.2x5.2mm, Pitch 0.65mm, IPC Low Density)
pins: 1 RE3/~{MCLR}/VPP (io), 2 RA0/AN0/ULPWU/C12IN0- (io), 3 RA1/AN1/C12IN1- (io), 4 RA2/AN2/VREF-/CVREF/C2IN+ (io), 5 RA3/AN3/VREF+/C1IN+ (io), 6 RA4/T0CKI/C1OUT (io), 7 RA5/AN4/~{SS}/C2OUT (io), 8 VSS (power), 9 RA7/OSC1/CLKIN (io), 10 RA6/OSC2/CLKOUT (io), 11 RC0/T1OSO/T1CKI (io), 12 RC1/T1OSI/CCP2 (io), 13 RC2/P1A/CCP1 (io), 14 RC3/SCK/SCL (io), 15 RC4/SDI/SDA (io), 16 RC5/SDO (io), 17 RC6/TX/CK (io), 18 RC7/RX/DT (io), 19 VSS (power), 20 VDD (power), 21 RB0/AN12/INT (io), 22 RB1/AN10/P1C/C12IN3- (io), 23 RB2/AN8/P1B (io), 24 RB3/AN9/PGM/C12IN2- (io), 25 RB4/AN11/P1D (io), 26 RB5/AN13/~{T1G} (io), 27 RB6/ICSPCLK (io), 28 RB7/ICSPDAT (io)

## PIC16F886T-E/ML
designator U?
Flash-Based, 8-Bit CMOS Microcontroller with nanoWatt Technology, 8K (x14-Bit words) Program Memory, 624 Bytes Data Memory, 24 I/O pins, 28-Pin QFN, Standard VDD Range, Extended Temperature, Tape and Reel; Manufacturer: Microchip; PartNumber: PIC16F886T-E/ML; DatasheetVersion: revF, Apr-2009; PackageVersion: revBB, Aug-2009; PackageReference: QFN-ML28; PackageDescription: 28-Lead Plastic Quad Flat, No Lead Package (ML) - 6x6 mm Body [QFN] with 0.55 mm Contact Length; Code_JEDEC: MO-220; ComponentLink1Description: Manufacturer URL; ComponentLink1URL: http://www.microchip.com/; ComponentLink2Description: Datasheet; ComponentLink2URL: http://ww1.microchip.com/downloads/en/DeviceDoc/41291F.pdf; ComponentLink3Description: Package Specification; ComponentLink3URL: http://www.microchip.com/stellent/groups/techpub_sg/documents/packagingspec/en012702.pdf
footprint QFN-ML28_N (QFN, 28-Leads, Body 6x6mm, Pitch 0.65mm, Thermal Pad 4.2x4.2mm, IPC Medium Density)
footprint QFN-ML28_L (QFN, 28-Leads, Body 6x6mm, Pitch 0.65mm, Thermal Pad 4.2x4.2mm, IPC High Density)
footprint QFN-ML28_M (QFN, 28-Leads, Body 6x6mm, Pitch 0.65mm, Thermal Pad 4.2x4.2mm, IPC Low Density)
pins: 1 RA2/AN2/VREF-/CVREF/C2IN+ (io), 2 RA3/AN3/VREF+/C1IN+ (io), 3 RA4/T0CKI/C1OUT (io), 4 RA5/AN4/~{SS}/C2OUT (io), 5 VSS (power), 6 RA7/OSC1/CLKIN (io), 7 RA6/OSC2/CLKOUT (io), 8 RC0/T1OSO/T1CKI (io), 9 RC1/T1OSI/CCP2 (io), 10 RC2/P1A/CCP1 (io), 11 RC3/SCK/SCL (io), 12 RC4/SDI/SDA (io), 13 RC5/SDO (io), 14 RC6/TX/CK (io), 15 RC7/RX/DT (io), 16 VSS (power), 17 VDD (power), 18 RB0/AN12/INT (io), 19 RB1/AN10/P1C/C12IN3- (io), 20 RB2/AN8/P1B (io), 21 RB3/AN9/PGM/C12IN2- (io), 22 RB4/AN11/P1D (io), 23 RB5/AN13/~{T1G} (io), 24 RB6/ICSPCLK (io), 25 RB7/ICSPDAT (io), 26 RE3/~{MCLR}/VPP (io), 27 RA0/AN0/ULPWU/C12IN0- (io), 28 RA1/AN1/C12IN1- (io), 29 Thermal Pad

## PIC16F886T-E/SS
designator U?
Flash-Based, 8-Bit CMOS Microcontroller with nanoWatt Technology, 8K (x14-Bit words) Program Memory, 624 Bytes Data Memory, 24 I/O pins, 28-Pin SSOP, Standard VDD Range, Extended Temperature, Tape and Reel; Manufacturer: Microchip; PartNumber: PIC16F886T-E/SS; DatasheetVersion: revF, Apr-2009; PackageVersion: revBB, Aug-2009; PackageReference: SSOP-SS28; PackageDescription: 28-Lead Plastic Shrink Small Outline (SS) - 5.3mm Body [SSOP]; Code_JEDEC: MS-150; ComponentLink1Description: Manufacturer URL; ComponentLink1URL: http://www.microchip.com/; ComponentLink2Description: Datasheet; ComponentLink2URL: http://ww1.microchip.com/downloads/en/DeviceDoc/41291F.pdf; ComponentLink3Description: Package Specification; ComponentLink3URL: http://www.microchip.com/stellent/groups/techpub_sg/documents/packagingspec/en012702.pdf
footprint SSOP-SS28_N (SOP, 28-Leads, Body 10.2x5.2mm, Pitch 0.65mm, IPC Medium Density)
footprint SSOP-SS28_L (SOP, 28-Leads, Body 10.2x5.2mm, Pitch 0.65mm, IPC High Density)
footprint SSOP-SS28_M (SOP, 28-Leads, Body 10.2x5.2mm, Pitch 0.65mm, IPC Low Density)
pins: 1 RE3/~{MCLR}/VPP (io), 2 RA0/AN0/ULPWU/C12IN0- (io), 3 RA1/AN1/C12IN1- (io), 4 RA2/AN2/VREF-/CVREF/C2IN+ (io), 5 RA3/AN3/VREF+/C1IN+ (io), 6 RA4/T0CKI/C1OUT (io), 7 RA5/AN4/~{SS}/C2OUT (io), 8 VSS (power), 9 RA7/OSC1/CLKIN (io), 10 RA6/OSC2/CLKOUT (io), 11 RC0/T1OSO/T1CKI (io), 12 RC1/T1OSI/CCP2 (io), 13 RC2/P1A/CCP1 (io), 14 RC3/SCK/SCL (io), 15 RC4/SDI/SDA (io), 16 RC5/SDO (io), 17 RC6/TX/CK (io), 18 RC7/RX/DT (io), 19 VSS (power), 20 VDD (power), 21 RB0/AN12/INT (io), 22 RB1/AN10/P1C/C12IN3- (io), 23 RB2/AN8/P1B (io), 24 RB3/AN9/PGM/C12IN2- (io), 25 RB4/AN11/P1D (io), 26 RB5/AN13/~{T1G} (io), 27 RB6/ICSPCLK (io), 28 RB7/ICSPDAT (io)

## PIC16F886T-I/ML
designator U?
Flash-Based, 8-Bit CMOS Microcontroller with nanoWatt Technology, 8K (x14-Bit words) Program Memory, 624 Bytes Data Memory, 24 I/O pins, 28-Pin QFN, Standard VDD Range, Industrial Temperature, Tape and Reel; Manufacturer: Microchip; PartNumber: PIC16F886T-I/ML; DatasheetVersion: revF, Apr-2009; PackageVersion: revBB, Aug-2009; PackageReference: QFN-ML28; PackageDescription: 28-Lead Plastic Quad Flat, No Lead Package (ML) - 6x6 mm Body [QFN] with 0.55 mm Contact Length; Supplier 1: Digi-Key; Supplier Part Number 1: PIC16F886T-I/ML-ND; Supplier 2: Mouser; Supplier Part Number 2: 579-PIC16F886T-I/ML; Code_JEDEC: MO-220; ComponentLink1Description: Manufacturer URL; ComponentLink1URL: http://www.microchip.com/; ComponentLink2Description: Datasheet; ComponentLink2URL: http://ww1.microchip.com/downloads/en/DeviceDoc/41291F.pdf; ComponentLink3Description: Package Specification; ComponentLink3URL: http://www.microchip.com/stellent/groups/techpub_sg/documents/packagingspec/en012702.pdf
footprint QFN-ML28_N (QFN, 28-Leads, Body 6x6mm, Pitch 0.65mm, Thermal Pad 4.2x4.2mm, IPC Medium Density)
footprint QFN-ML28_L (QFN, 28-Leads, Body 6x6mm, Pitch 0.65mm, Thermal Pad 4.2x4.2mm, IPC High Density)
footprint QFN-ML28_M (QFN, 28-Leads, Body 6x6mm, Pitch 0.65mm, Thermal Pad 4.2x4.2mm, IPC Low Density)
pins: 1 RA2/AN2/VREF-/CVREF/C2IN+ (io), 2 RA3/AN3/VREF+/C1IN+ (io), 3 RA4/T0CKI/C1OUT (io), 4 RA5/AN4/~{SS}/C2OUT (io), 5 VSS (power), 6 RA7/OSC1/CLKIN (io), 7 RA6/OSC2/CLKOUT (io), 8 RC0/T1OSO/T1CKI (io), 9 RC1/T1OSI/CCP2 (io), 10 RC2/P1A/CCP1 (io), 11 RC3/SCK/SCL (io), 12 RC4/SDI/SDA (io), 13 RC5/SDO (io), 14 RC6/TX/CK (io), 15 RC7/RX/DT (io), 16 VSS (power), 17 VDD (power), 18 RB0/AN12/INT (io), 19 RB1/AN10/P1C/C12IN3- (io), 20 RB2/AN8/P1B (io), 21 RB3/AN9/PGM/C12IN2- (io), 22 RB4/AN11/P1D (io), 23 RB5/AN13/~{T1G} (io), 24 RB6/ICSPCLK (io), 25 RB7/ICSPDAT (io), 26 RE3/~{MCLR}/VPP (io), 27 RA0/AN0/ULPWU/C12IN0- (io), 28 RA1/AN1/C12IN1- (io), 29 Thermal Pad

## PIC16F886T-I/SO
designator U?
Flash-Based, 8-Bit CMOS Microcontroller with nanoWatt Technology, 8K (x14-Bit words) Program Memory, 624 Bytes Data Memory, 24 I/O pins, 28-Pin SOIC, Standard VDD Range, Industrial Temperature, Tape and Reel; Manufacturer: Microchip; PartNumber: PIC16F886T-I/SO; DatasheetVersion: revF, Apr-2009; PackageVersion: revBB, Aug-2009; PackageReference: SOIC-SO28; PackageDescription: 28-Lead Plastic Small Outline (SO) - Wide 7.50mm Body [SOIC]; Supplier 1: Digi-Key; Supplier Part Number 1: PIC16F886T-I/SO-ND; Supplier 2: Newark; Supplier Part Number 2: 86W6452; Supplier 3: Newark; Supplier Part Number 3: 74K8580; Supplier 4: Mouser; Supplier Part Number 4: 579-PIC16F886T-I/SO; Code_JEDEC: MS-013; ComponentLink1Description: Manufacturer URL; ComponentLink1URL: http://www.microchip.com/; ComponentLink2Description: Datasheet; ComponentLink2URL: http://ww1.microchip.com/downloads/en/DeviceDoc/41291F.pdf; ComponentLink3Description: Package Specification; ComponentLink3URL: http://www.microchip.com/stellent/groups/techpub_sg/documents/packagingspec/en012702.pdf
footprint SOIC-SO28_N (SOIC, 28-Leads, Body 17.9x7.5mm, Pitch 1.27mm, IPC Medium Density)
footprint SOIC-SO28_L (SOIC, 28-Leads, Body 17.9x7.5mm, Pitch 1.27mm, IPC High Density)
footprint SOIC-SO28_M (SOIC, 28-Leads, Body 17.9x7.5mm, Pitch 1.27mm, IPC Low Density)
pins: 1 RE3/~{MCLR}/VPP (io), 2 RA0/AN0/ULPWU/C12IN0- (io), 3 RA1/AN1/C12IN1- (io), 4 RA2/AN2/VREF-/CVREF/C2IN+ (io), 5 RA3/AN3/VREF+/C1IN+ (io), 6 RA4/T0CKI/C1OUT (io), 7 RA5/AN4/~{SS}/C2OUT (io), 8 VSS (power), 9 RA7/OSC1/CLKIN (io), 10 RA6/OSC2/CLKOUT (io), 11 RC0/T1OSO/T1CKI (io), 12 RC1/T1OSI/CCP2 (io), 13 RC2/P1A/CCP1 (io), 14 RC3/SCK/SCL (io), 15 RC4/SDI/SDA (io), 16 RC5/SDO (io), 17 RC6/TX/CK (io), 18 RC7/RX/DT (io), 19 VSS (power), 20 VDD (power), 21 RB0/AN12/INT (io), 22 RB1/AN10/P1C/C12IN3- (io), 23 RB2/AN8/P1B (io), 24 RB3/AN9/PGM/C12IN2- (io), 25 RB4/AN11/P1D (io), 26 RB5/AN13/~{T1G} (io), 27 RB6/ICSPCLK (io), 28 RB7/ICSPDAT (io)

## PIC16F886T-I/SS
designator U?
Flash-Based, 8-Bit CMOS Microcontroller with nanoWatt Technology, 8K (x14-Bit words) Program Memory, 624 Bytes Data Memory, 24 I/O pins, 28-Pin SSOP, Standard VDD Range, Industrial Temperature, Tape and Reel; Manufacturer: Microchip; PartNumber: PIC16F886T-I/SS; DatasheetVersion: revF, Apr-2009; PackageVersion: revBB, Aug-2009; PackageReference: SSOP-SS28; PackageDescription: 28-Lead Plastic Shrink Small Outline (SS) - 5.3mm Body [SSOP]; Supplier 1: Digi-Key; Supplier Part Number 1: PIC16F886T-I/SS-ND; Supplier 2: Mouser; Supplier Part Number 2: 579-PIC16F886T-I/SS; Code_JEDEC: MS-150; ComponentLink1Description: Manufacturer URL; ComponentLink1URL: http://www.microchip.com/; ComponentLink2Description: Datasheet; ComponentLink2URL: http://ww1.microchip.com/downloads/en/DeviceDoc/41291F.pdf; ComponentLink3Description: Package Specification; ComponentLink3URL: http://www.microchip.com/stellent/groups/techpub_sg/documents/packagingspec/en012702.pdf
footprint SSOP-SS28_N (SOP, 28-Leads, Body 10.2x5.2mm, Pitch 0.65mm, IPC Medium Density)
footprint SSOP-SS28_L (SOP, 28-Leads, Body 10.2x5.2mm, Pitch 0.65mm, IPC High Density)
footprint SSOP-SS28_M (SOP, 28-Leads, Body 10.2x5.2mm, Pitch 0.65mm, IPC Low Density)
pins: 1 RE3/~{MCLR}/VPP (io), 2 RA0/AN0/ULPWU/C12IN0- (io), 3 RA1/AN1/C12IN1- (io), 4 RA2/AN2/VREF-/CVREF/C2IN+ (io), 5 RA3/AN3/VREF+/C1IN+ (io), 6 RA4/T0CKI/C1OUT (io), 7 RA5/AN4/~{SS}/C2OUT (io), 8 VSS (power), 9 RA7/OSC1/CLKIN (io), 10 RA6/OSC2/CLKOUT (io), 11 RC0/T1OSO/T1CKI (io), 12 RC1/T1OSI/CCP2 (io), 13 RC2/P1A/CCP1 (io), 14 RC3/SCK/SCL (io), 15 RC4/SDI/SDA (io), 16 RC5/SDO (io), 17 RC6/TX/CK (io), 18 RC7/RX/DT (io), 19 VSS (power), 20 VDD (power), 21 RB0/AN12/INT (io), 22 RB1/AN10/P1C/C12IN3- (io), 23 RB2/AN8/P1B (io), 24 RB3/AN9/PGM/C12IN2- (io), 25 RB4/AN11/P1D (io), 26 RB5/AN13/~{T1G} (io), 27 RB6/ICSPCLK (io), 28 RB7/ICSPDAT (io)

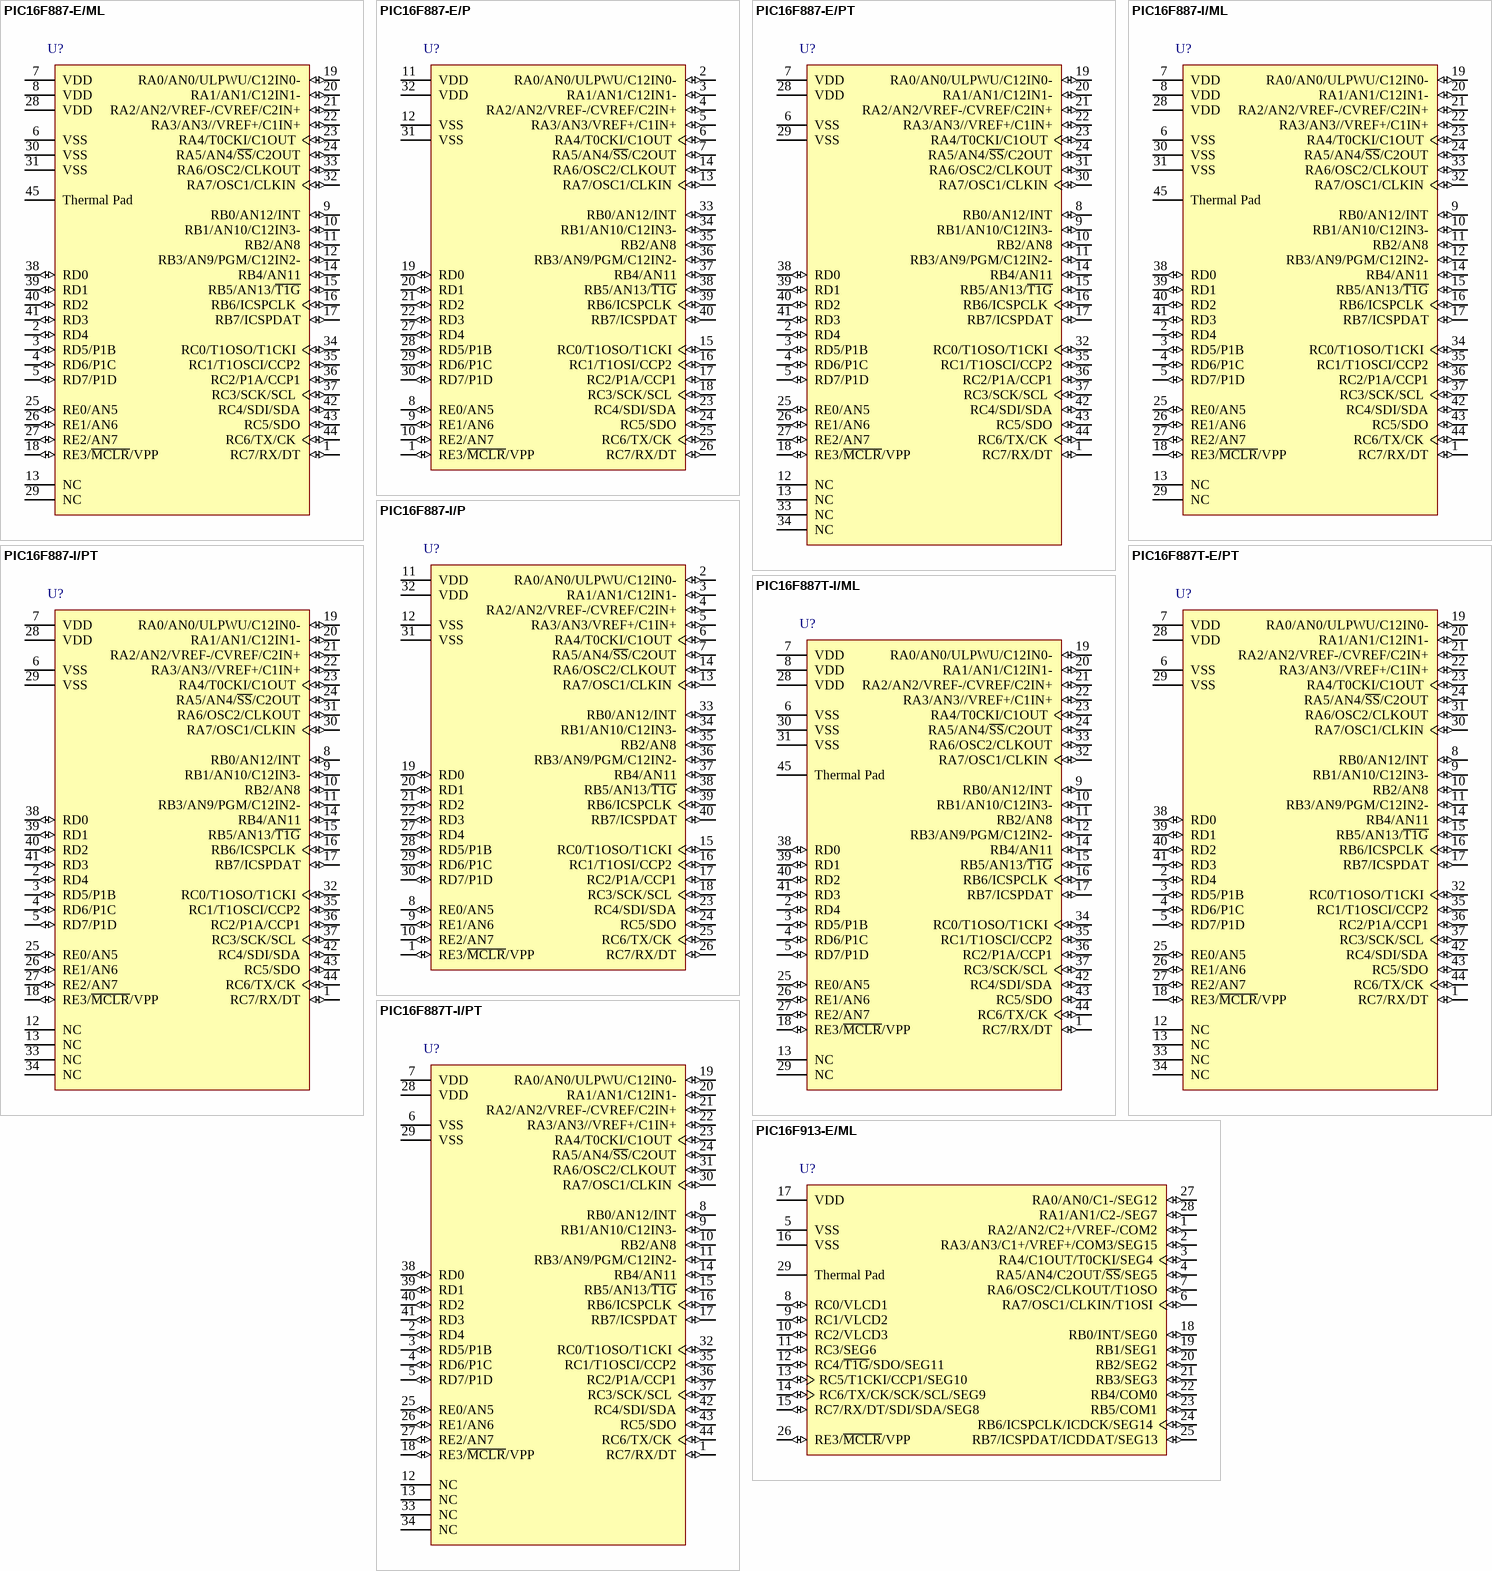
[diagram p70: symbols PIC16F887-E/ML to PIC16F913-E/ML]

## PIC16F887-E/ML
designator U?
Flash-Based, 8-Bit CMOS Microcontroller with nanoWatt Technology, 8K (x14-Bit words) Program Memory, 624 Bytes Data Memory, 35 I/O pins, 44-Pin QFN, Standard VDD Range, Extended Temperature; Manufacturer: Microchip; PartNumber: PIC16F887-E/ML; DatasheetVersion: revF, Apr-2009; PackageVersion: revBB, Aug-2009; PackageReference: QFN-ML44; PackageDescription: 44-Lead Plastic Quad Flat, No Lead Package (ML) - 8x8 mm Body [QFN]; Supplier 1: Digi-Key; Supplier Part Number 1: PIC16F887-E/ML-ND; Supplier 2: Mouser; Supplier Part Number 2: 579-PIC16F887-E/ML; Code_JEDEC: MO-220; Code_IPC: QFN65P800X800-44V2; ComponentLink1Description: Manufacturer URL; ComponentLink1URL: http://www.microchip.com/; ComponentLink2Description: Datasheet; ComponentLink2URL: http://ww1.microchip.com/downloads/en/DeviceDoc/41291F.pdf; ComponentLink3Description: Package Specification; ComponentLink3URL: http://www.microchip.com/stellent/groups/techpub_sg/documents/packagingspec/en012702.pdf
footprint QFN-ML44_N (QFN, 44-Leads, Body 8x8mm, Pitch 0.65mm, Thermal Pad 6.8x6.8mm, IPC Medium Density)
footprint QFN-ML44_L (QFN, 44-Leads, Body 8x8mm, Pitch 0.65mm, Thermal Pad 6.8x6.8mm, IPC High Density)
footprint QFN-ML44_M (QFN, 44-Leads, Body 8x8mm, Pitch 0.65mm, Thermal Pad 6.8x6.8mm, IPC Low Density)
pins: 1 RC7/RX/DT (io), 2 RD4 (io), 3 RD5/P1B (io), 4 RD6/P1C (io), 5 RD7/P1D (io), 6 VSS (power), 7 VDD (power), 8 VDD (power), 9 RB0/AN12/INT (io), 10 RB1/AN10/C12IN3- (io), 11 RB2/AN8 (io), 12 RB3/AN9/PGM/C12IN2- (io), 13 NC, 14 RB4/AN11 (io), 15 RB5/AN13/~{T1G} (io), 16 RB6/ICSPCLK (io), 17 RB7/ICSPDAT (io), 18 RE3/~{MCLR}/VPP (io), 19 RA0/AN0/ULPWU/C12IN0- (io), 20 RA1/AN1/C12IN1- (io), 21 RA2/AN2/VREF-/CVREF/C2IN+ (io), 22 RA3/AN3//VREF+/C1IN+ (io), 23 RA4/T0CKI/C1OUT (io), 24 RA5/AN4/~{SS}/C2OUT (io), 25 RE0/AN5 (io), 26 RE1/AN6 (io), 27 RE2/AN7 (io), 28 VDD (power), 29 NC, 30 VSS (power), 31 VSS (power), 32 RA7/OSC1/CLKIN (io), 33 RA6/OSC2/CLKOUT (io), 34 RC0/T1OSO/T1CKI (io), 35 RC1/T1OSCI/CCP2 (io), 36 RC2/P1A/CCP1 (io), 37 RC3/SCK/SCL (io), 38 RD0 (io), 39 RD1 (io), 40 RD2 (io), 41 RD3 (io), 42 RC4/SDI/SDA (io), 43 RC5/SDO (io), 44 RC6/TX/CK (io), 45 Thermal Pad

## PIC16F887-E/P
designator U?
Flash-Based, 8-Bit CMOS Microcontroller with nanoWatt Technology, 8K (x14-Bit words) Program Memory, 624 Bytes Data Memory, 35 I/O pins, 40-Pin PDIP, Standard VDD Range, Extended Temperature; Manufacturer: Microchip; PartNumber: PIC16F887-E/P; DatasheetVersion: revF, Apr-2009; PackageVersion: revBB, Aug-2009; PackageReference: PDIP600-P40; PackageDescription: 40-Lead Plastic Dual In-Line (P) - 600 mil Body [PDIP]; Supplier 1: Digi-Key; Supplier Part Number 1: PIC16F887-E/P-ND; Supplier 2: Farnell; Supplier Part Number 2: 1703423; Supplier 3: Newark; Supplier Part Number 3: 74K8583; Supplier 4: Mouser; Supplier Part Number 4: 579-PIC16F887-E/P; ComponentLink1Description: Manufacturer URL; ComponentLink1URL: http://www.microchip.com/; ComponentLink2Description: Datasheet; ComponentLink2URL: http://ww1.microchip.com/downloads/en/DeviceDoc/41291F.pdf; ComponentLink3Description: Package Specification; ComponentLink3URL: http://www.microchip.com/stellent/groups/techpub_sg/documents/packagingspec/en012702.pdf
footprint PDIP600-P40 (DIP, 40-Leads, Row Spacing 15.24mm, Pitch 2.54mm, Body 51.8x13.5mm)
pins: 1 RE3/~{MCLR}/VPP (io), 2 RA0/AN0/ULPWU/C12IN0- (io), 3 RA1/AN1/C12IN1- (io), 4 RA2/AN2/VREF-/CVREF/C2IN+ (io), 5 RA3/AN3/VREF+/C1IN+ (io), 6 RA4/T0CKI/C1OUT (io), 7 RA5/AN4/~{SS}/C2OUT (io), 8 RE0/AN5 (io), 9 RE1/AN6 (io), 10 RE2/AN7 (io), 11 VDD (power), 12 VSS (power), 13 RA7/OSC1/CLKIN (io), 14 RA6/OSC2/CLKOUT (io), 15 RC0/T1OSO/T1CKI (io), 16 RC1/T1OSI/CCP2 (io), 17 RC2/P1A/CCP1 (io), 18 RC3/SCK/SCL (io), 19 RD0 (io), 20 RD1 (io), 21 RD2 (io), 22 RD3 (io), 23 RC4/SDI/SDA (io), 24 RC5/SDO (io), 25 RC6/TX/CK (io), 26 RC7/RX/DT (io), 27 RD4 (io), 28 RD5/P1B (io), 29 RD6/P1C (io), 30 RD7/P1D (io), 31 VSS (power), 32 VDD (power), 33 RB0/AN12/INT (io), 34 RB1/AN10/C12IN3- (io), 35 RB2/AN8 (io), 36 RB3/AN9/PGM/C12IN2- (io), 37 RB4/AN11 (io), 38 RB5/AN13/~{T1G} (io), 39 RB6/ICSPCLK (io), 40 RB7/ICSPDAT (io)

## PIC16F887-E/PT
designator U?
Flash-Based, 8-Bit CMOS Microcontroller with nanoWatt Technology, 8K (x14-Bit words) Program Memory, 624 Bytes Data Memory, 35 I/O pins, 44-Pin TQFP, Standard VDD Range, Extended Temperature; Manufacturer: Microchip; PartNumber: PIC16F887-E/PT; DatasheetVersion: revF, Apr-2009; PackageVersion: revBB, Aug-2009; PackageReference: TQFP-PT44; PackageDescription: 44-Lead Plastic Thin Quad Flatpack (PT) - 10x10x1mm Body, 2.00mm [TQFP]; Supplier 1: Digi-Key; Supplier Part Number 1: PIC16F887-E/PT-ND; Supplier 2: Newark; Supplier Part Number 2: 74K8584; Supplier 3: Mouser; Supplier Part Number 3: 579-PIC16F887-E/PT; Code_JEDEC: MS-026; ComponentLink1Description: Manufacturer URL; ComponentLink1URL: http://www.microchip.com/; ComponentLink2Description: Datasheet; ComponentLink2URL: http://ww1.microchip.com/downloads/en/DeviceDoc/41291F.pdf; ComponentLink3Description: Package Specification; ComponentLink3URL: http://www.microchip.com/stellent/groups/techpub_sg/documents/packagingspec/en012702.pdf
footprint TQFP-PT44_N (Thin QFP, 44-Leads, Body 10x10mm, Pitch 0.8mm, IPC Medium Density)
footprint TQFP-PT44_L (Thin QFP, 44-Leads, Body 10x10mm, Pitch 0.8mm, IPC High Density)
footprint TQFP-PT44_M (Thin QFP, 44-Leads, Body 10x10mm, Pitch 0.8mm, IPC Low Density)
pins: 1 RC7/RX/DT (io), 2 RD4 (io), 3 RD5/P1B (io), 4 RD6/P1C (io), 5 RD7/P1D (io), 6 VSS (power), 7 VDD (power), 8 RB0/AN12/INT (io), 9 RB1/AN10/C12IN3- (io), 10 RB2/AN8 (io), 11 RB3/AN9/PGM/C12IN2- (io), 12 NC, 13 NC, 14 RB4/AN11 (io), 15 RB5/AN13/~{T1G} (io), 16 RB6/ICSPCLK (io), 17 RB7/ICSPDAT (io), 18 RE3/~{MCLR}/VPP (io), 19 RA0/AN0/ULPWU/C12IN0- (io), 20 RA1/AN1/C12IN1- (io), 21 RA2/AN2/VREF-/CVREF/C2IN+ (io), 22 RA3/AN3//VREF+/C1IN+ (io), 23 RA4/T0CKI/C1OUT (io), 24 RA5/AN4/~{SS}/C2OUT (io), 25 RE0/AN5 (io), 26 RE1/AN6 (io), 27 RE2/AN7 (io), 28 VDD (power), 29 VSS (power), 30 RA7/OSC1/CLKIN (io), 31 RA6/OSC2/CLKOUT (io), 32 RC0/T1OSO/T1CKI (io), 33 NC, 34 NC, 35 RC1/T1OSCI/CCP2 (io), 36 RC2/P1A/CCP1 (io), 37 RC3/SCK/SCL (io), 38 RD0 (io), 39 RD1 (io), 40 RD2 (io), 41 RD3 (io), 42 RC4/SDI/SDA (io), 43 RC5/SDO (io), 44 RC6/TX/CK (io)

## PIC16F887-I/ML
designator U?
Flash-Based, 8-Bit CMOS Microcontroller with nanoWatt Technology, 8K (x14-Bit words) Program Memory, 624 Bytes Data Memory, 35 I/O pins, 44-Pin QFN, Standard VDD Range, Industrial Temperature; Manufacturer: Microchip; PartNumber: PIC16F887-I/ML; DatasheetVersion: revF, Apr-2009; PackageVersion: revBB, Aug-2009; PackageReference: QFN-ML44; PackageDescription: 44-Lead Plastic Quad Flat, No Lead Package (ML) - 8x8 mm Body [QFN]; Supplier 1: Digi-Key; Supplier Part Number 1: PIC16F887-I/ML-ND; Supplier 2: Farnell; Supplier Part Number 2: 1618005; Supplier 3: Newark; Supplier Part Number 3: 74K8585; Supplier 4: Mouser; Supplier Part Number 4: 579-PIC16F887-I/ML; Code_JEDEC: MO-220; Code_IPC: QFN65P800X800-44V2; ComponentLink1Description: Manufacturer URL; ComponentLink1URL: http://www.microchip.com/; ComponentLink2Description: Datasheet; ComponentLink2URL: http://ww1.microchip.com/downloads/en/DeviceDoc/41291F.pdf; ComponentLink3Description: Package Specification; ComponentLink3URL: http://www.microchip.com/stellent/groups/techpub_sg/documents/packagingspec/en012702.pdf
footprint QFN-ML44_N (QFN, 44-Leads, Body 8x8mm, Pitch 0.65mm, Thermal Pad 6.8x6.8mm, IPC Medium Density)
footprint QFN-ML44_L (QFN, 44-Leads, Body 8x8mm, Pitch 0.65mm, Thermal Pad 6.8x6.8mm, IPC High Density)
footprint QFN-ML44_M (QFN, 44-Leads, Body 8x8mm, Pitch 0.65mm, Thermal Pad 6.8x6.8mm, IPC Low Density)
pins: 1 RC7/RX/DT (io), 2 RD4 (io), 3 RD5/P1B (io), 4 RD6/P1C (io), 5 RD7/P1D (io), 6 VSS (power), 7 VDD (power), 8 VDD (power), 9 RB0/AN12/INT (io), 10 RB1/AN10/C12IN3- (io), 11 RB2/AN8 (io), 12 RB3/AN9/PGM/C12IN2- (io), 13 NC, 14 RB4/AN11 (io), 15 RB5/AN13/~{T1G} (io), 16 RB6/ICSPCLK (io), 17 RB7/ICSPDAT (io), 18 RE3/~{MCLR}/VPP (io), 19 RA0/AN0/ULPWU/C12IN0- (io), 20 RA1/AN1/C12IN1- (io), 21 RA2/AN2/VREF-/CVREF/C2IN+ (io), 22 RA3/AN3//VREF+/C1IN+ (io), 23 RA4/T0CKI/C1OUT (io), 24 RA5/AN4/~{SS}/C2OUT (io), 25 RE0/AN5 (io), 26 RE1/AN6 (io), 27 RE2/AN7 (io), 28 VDD (power), 29 NC, 30 VSS (power), 31 VSS (power), 32 RA7/OSC1/CLKIN (io), 33 RA6/OSC2/CLKOUT (io), 34 RC0/T1OSO/T1CKI (io), 35 RC1/T1OSCI/CCP2 (io), 36 RC2/P1A/CCP1 (io), 37 RC3/SCK/SCL (io), 38 RD0 (io), 39 RD1 (io), 40 RD2 (io), 41 RD3 (io), 42 RC4/SDI/SDA (io), 43 RC5/SDO (io), 44 RC6/TX/CK (io), 45 Thermal Pad